# EAGLE library part TPS5420 (library texas-instruments)
2-A, WIDE INPUT RANGE, STEP-DOWN SWIFT CONVERTER
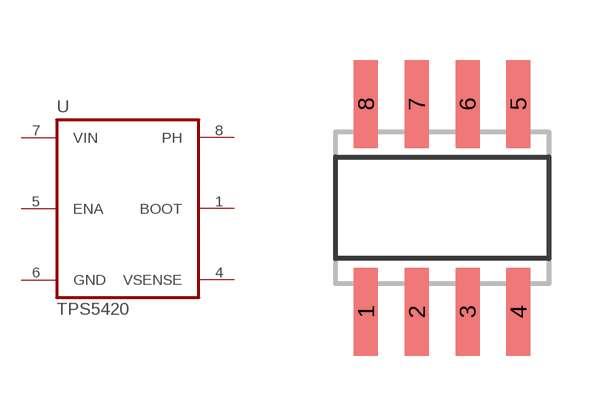
[diagram p6: symbol with the pads of SO08; footprint SO08]

Designator prefix U

## TPS5420D (P1I: o)  [SO08]
1  BOOT  in
4  VSENSE  in
5  ENA
6  GND  pwr
7  VIN  in
8  PH  out

## Footprint SO08 (pad centres in mm)
SMALL OUTLINE INTEGRATED CIRCUIT body 3.9 mm/JEDEC MS-012AA
smd 0.6 x 2.2: 1 -1.905,-2.6; 2 -0.635,-2.6; 3 0.635,-2.6; 4 1.905,-2.6; 5 1.905,2.6; 6 0.635,2.6; 7 -0.635,2.6; 8 -1.905,2.6